# Altium footprint library PCB - LEADED - SOT - INFINEON SOT-343-4.PCBLIB: 1 footprints
Each footprint in its own frame and in the unit in brackets; x right, y up, seen from the top. Pads: shape width x height; smd on the part's side, far side on the other; paste and mask are expansions set on the pad; w line width, h text height; cw(c..) or ccw(c..) is an arc to the next point about the centre after c.
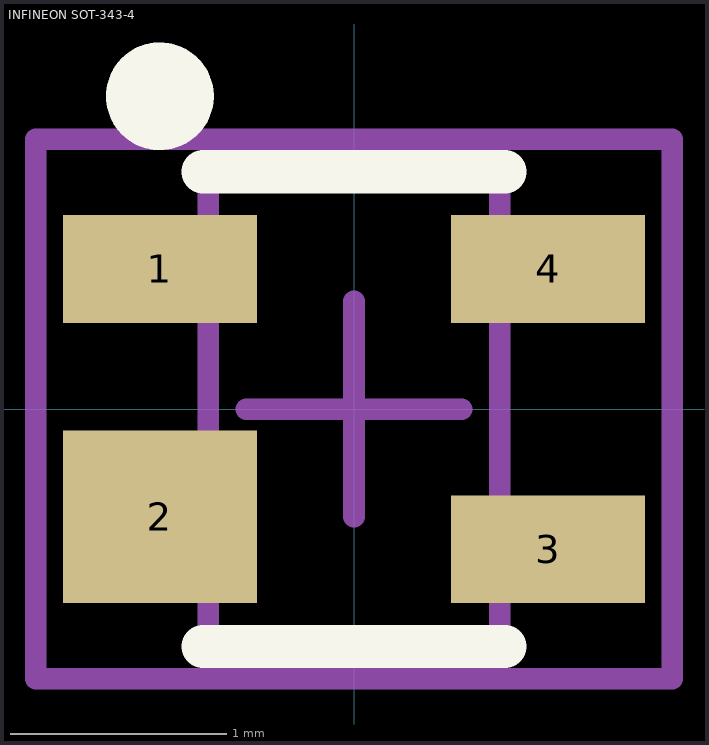
[diagram p0: the footprint, top view; thin cyan lines are the x and y axes]

## INFINEON SOT-343-4 [mm] "SOT343, 4-Leads, Body 2.3x2.4mm (max), Pitch 1.30mm, IPC High Density"
height 1.2
pads (4):
  rect 0.9x0.5 smd: 1(-0.9,0.65) 3(0.9,-0.65) 4(0.9,0.65)
  rect 0.9x0.8 smd: 2(-0.9,-0.5)
Top Overlay:
  circle w0.25: c-0.9,1.45 r0.125
  lines w0.2: -0.7,-1.1 0.7,-1.1 ; -0.7,1.1 0.7,1.1
Mechanical 13:
  lines w0.1: -0.675,-1.125 0.675,-1.125 0.675,1.125 -0.675,1.125 -0.675,-1.125
Mechanical 15:
  lines w0.1: -1.475,-1.25 1.475,-1.25 1.475,1.25 -1.475,1.25 -1.475,-1.25
Mechanical 2 (Mech9):
  lines w0.1: -0.5,0 0.5,0 ; 0,-0.5 0,0.5
3D body "Infineon SOT343-4 rf.STEP": height 1, standoff 0, extent -1.1,-1.1 1.1,1.1